# EAGLE library part 62674-121121ALF (library FCI-tkr)
CONN FPC/FFC 12POS .5MM VERT SMD
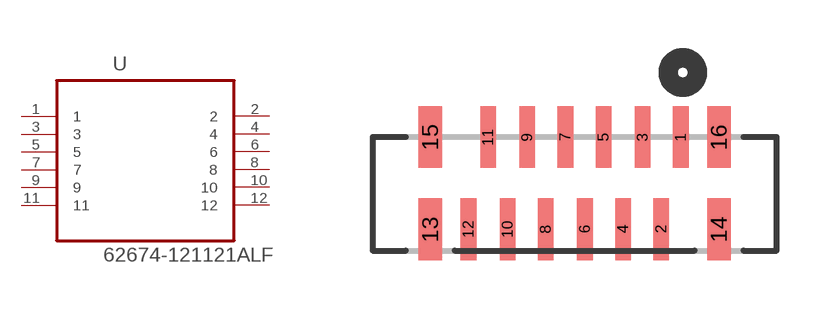
[diagram p4: symbol with the pads of FCI_62674-121121ALF; footprint FCI_62674-121121ALF]

Designator prefix U

## 62674-121121ALF (MPN: 62674-121121ALF; OC_FARNELL: 1830627; OC_NEWARK: 03M2159; PACKAGE: CONN - 12POS; SUPPLIER: FCI)  [FCI_62674-121121ALF]
1  1  pas
2  2  pas
3  3  pas
4  4  pas
5  5  pas
6  6  pas
7  7  pas
8  8  pas
9  9  pas
10  10  pas
11  11  pas
12  12  pas

## Footprint FCI_62674-121121ALF (pad centres in mm)
smd 0.406 x 1.6: 1 0,4.775; 2 -0.508,2.388; 3 -0.991,4.775; 4 -1.499,2.388; 5 -2.007,4.775; 6 -2.489,2.388; 7 -2.997,4.775; 8 -3.505,2.388; 9 -3.988,4.775; 10 -4.496,2.388; 11 -5.004,4.775; 12 -5.512,2.388
smd 0.61 x 1.6: 13 -6.502,2.388; 14 0.991,2.388; 15 -6.502,4.775; 16 0.991,4.775